# Altium schematic symbol library bmp280_connector_schematic.SchLib: 1 symbol
Pins are listed as number, name and electrical type; pins without a type are passive.

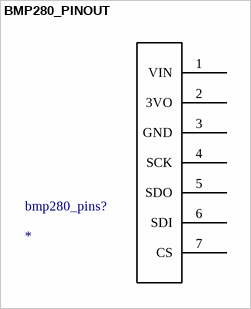
[diagram p0: symbol BMP280_PINOUT]

## BMP280_PINOUT
designator bmp280_pins?
footprint PCBComponent_1
footprint bmp280_footprint
pins: 1 VIN, 2 3VO, 3 GND, 4 SCK, 5 SDO, 6 SDI, 7 CS